# EAGLE library part 7408 (library dooba)
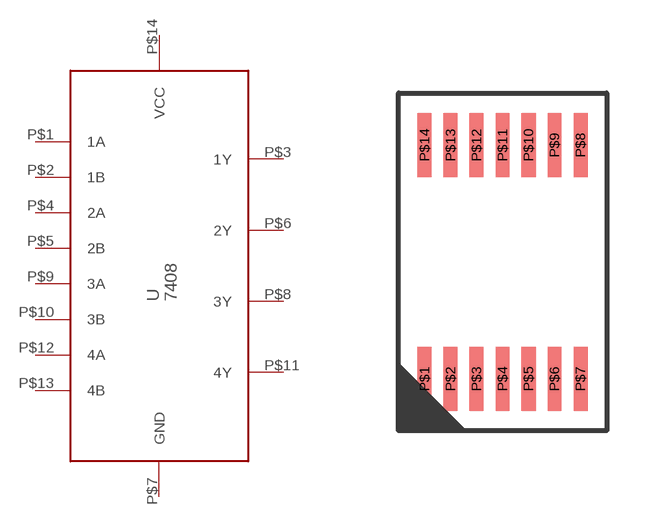
[diagram p39: symbol with the pads of TSSOP-14; footprint TSSOP-14]

Designator prefix U

## 7408TSSOP14  [TSSOP-14]
P$1  1A
P$2  1B
P$3  1Y
P$4  2A
P$5  2B
P$6  2Y
P$7  GND
P$8  3Y
P$9  3A
P$10  3B
P$11  4Y
P$12  4A
P$13  4B
P$14  VCC

## Footprint TSSOP-14 (pad centres in mm)
smd 0.35 x 1.6: P$1 -1.95,-2.925; P$2 -1.3,-2.925; P$3 -0.65,-2.925; P$4 0,-2.925; P$5 0.65,-2.925; P$6 1.3,-2.925; P$7 1.95,-2.925; P$8 1.95,2.925; P$9 1.3,2.925; P$10 0.65,2.925; P$11 0,2.925; P$12 -0.65,2.925; P$13 -1.3,2.925; P$14 -1.95,2.925